# Altium schematic symbol library Connector.SchLib: 12 symbols
Pins are listed as number, name and electrical type; pins without a type are passive.

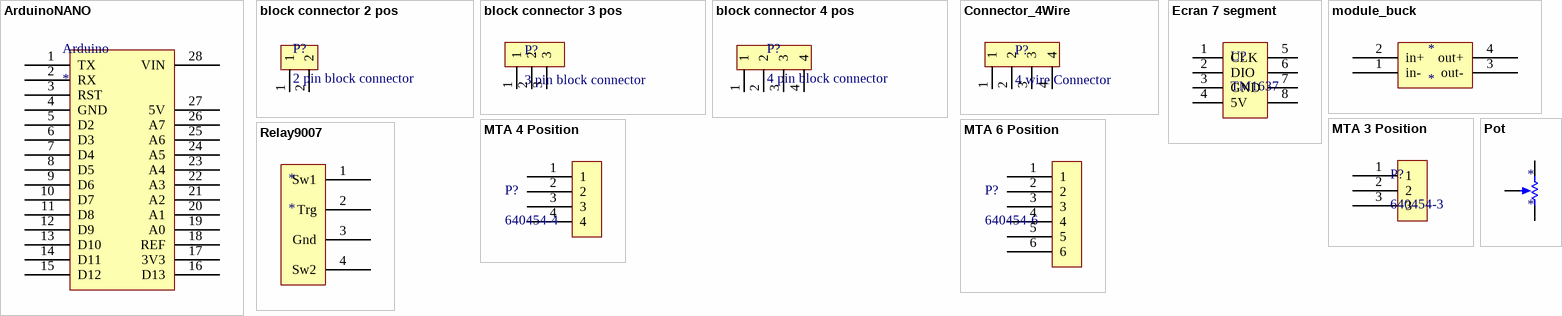
[diagram p0: symbols ArduinoNANO to Relay9007]

## ArduinoNANO
designator Arduino
footprint Arduino
footprint Arduino (SIMPLE)
pins: 1 TX, 2 RX, 3 RST, 4 GND, 5 D2, 6 D3, 7 D4, 8 D5, 9 D6, 10 D7, 11 D8, 12 D9, 13 D10, 14 D11, 15 D12, 16 D13, 17 3V3, 18 REF, 19 A0, 20 A1, 21 A2, 22 A3, 23 A4, 24 A5, 25 A6, 26 A7, 27 5V, 28 VIN

## block connector 2 pos
designator P?, comment 2 pin block connector
EBWA-02-B
footprint Block 150mil 2pos
pins: 1, 2

## block connector 3 pos
designator P?, comment 3 pin block connector
EBWA-02-B
footprint Block 150mil 3pos
pins: 1, 2, 3

## block connector 4 pos
designator P?, comment 4 pin block connector
EBWA-04-B
footprint Block 150mil 4pos
pins: 1, 2, 3, 4

## Connector_4Wire
designator P?, comment 4 wire Connector
footprint 4_pin 3mm
pins: 1, 2, 3, 4

## Ecran 7 segment
designator U?, comment TM1637
footprint Shield_7seg_small (Ecran 7seg)
footprint Shield_7seg (Ecran 7seg)
pins: 1 CLK, 2 DIO, 3 GND, 4 5V, 5  , 6  , 7  , 8  

## module_buck
designator *
footprint Shield_buck_converter
pins: 1 in-, 2 in+, 3 out-, 4 out+

## MTA 3 Position
designator P?, comment 640454-3
Manufacturer_Part_Number: 640454-4; Vendor: TE Connectivity; Built_By: EMA_UL_Team; Copyright: Copyright (C) 2018 Accelerated Designs. All rights reserved; RefDes: RefDes; Type: DEV; Value: Value
footprint 100'' MTA 3 pos (MTA 4 pos)
pins: 1, 2, 3

## MTA 4 Position
designator P?, comment 640454-4
Vendor: TE Connectivity; Built_By: EMA_UL_Team; Manufacturer_Part_Number: 640454-4; Copyright: Copyright (C) 2018 Accelerated Designs. All rights reserved; RefDes: RefDes; Type: DEV; Value: Value
footprint 100'' MTA 4 pos (MTA 4 pos)
pins: 1, 2, 3, 4

## MTA 6 Position
designator P?, comment 640454-6
Manufacturer_Part_Number: 640454-4; Vendor: TE Connectivity; Built_By: EMA_UL_Team; Copyright: Copyright (C) 2018 Accelerated Designs. All rights reserved; RefDes: RefDes; Type: DEV; Value: Value
footprint 100'' MTA 6 pos (MTA 4 pos)
pins: 1, 2, 3, 4, 5, 6

## Pot
designator *
footprint 3-Pos_Rect_Pot (Thru-Hole; 3 Leads)
pins: 1, 2, 3

## Relay9007
designator *
footprint Relay
footprint COTO_9007
pins: 1 Sw1, 2 Trg, 3 Gnd, 4 Sw2